# EAGLE library part SOCKET-HEADER (library my)
Sumitomo Standard Socket <www.mmm.co.jp/electrical/connector/list_c.html>
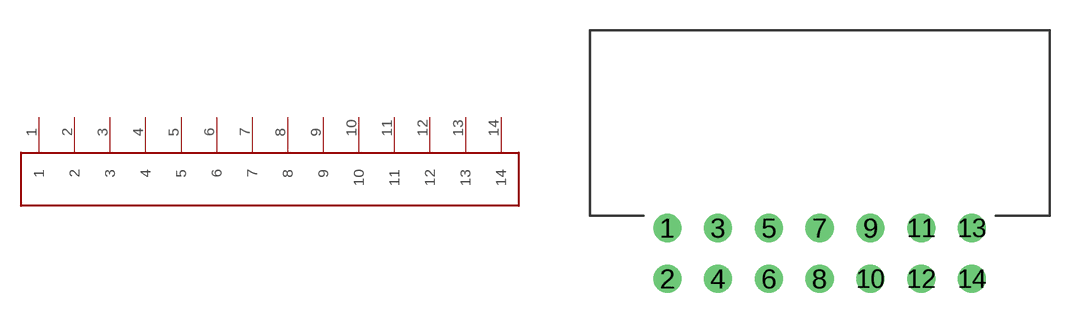
[diagram p15: symbol with the pads of SOCKET-HEADER-7614-5002; footprint SOCKET-HEADER-7614-5002]

Designator prefix -

## SOCKET-HEADER-7614-5002  [SOCKET-HEADER-7614-5002]
1  1
2  2
3  3
4  4
5  5
6  6
7  7
8  8
9  9
10  10
11  11
12  12
13  13
14  14

## Footprint SOCKET-HEADER-7614-5002 (pad centres in mm)
drill 0.9: 1 -7.62,2.54; 2 -7.62,0; 3 -5.08,2.54; 4 -5.08,0; 5 -2.54,2.54; 6 -2.54,0; 7 0,2.54; 8 0,0; 9 2.54,2.54; 10 2.54,0; 11 5.08,2.54; 12 5.08,0; 13 7.62,2.54; 14 7.62,0